# Altium footprint library DPAK171P1524X485-6N.PcbLib: 1 footprints
Each footprint in its own frame and in the unit in brackets; x right, y up, seen from the top. Pads: shape width x height; smd on the part's side, far side on the other; paste and mask are expansions set on the pad; w line width, h text height; cw(c..) or ccw(c..) is an arc to the next point about the centre after c.
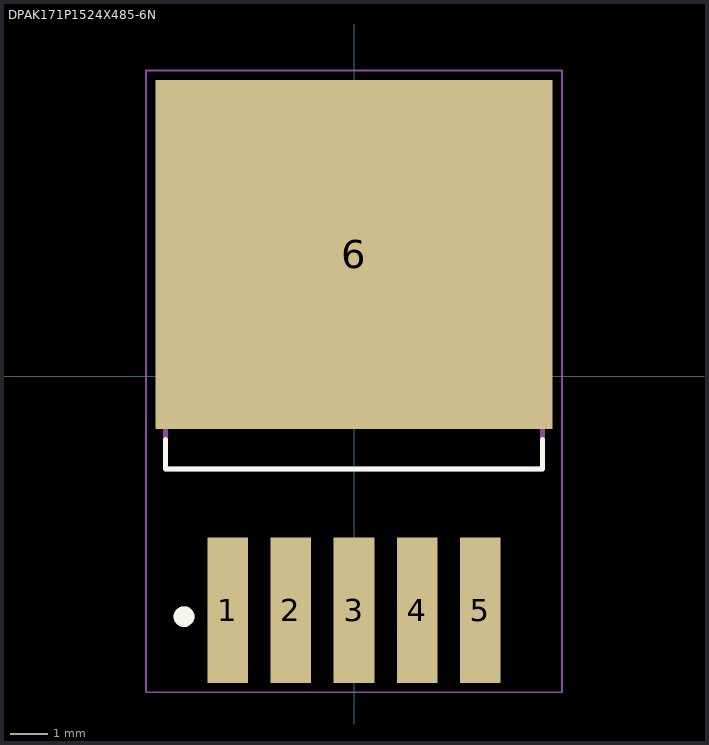
[diagram p0: the footprint, top view; thin cyan lines are the x and y axes]

## DPAK171P1524X485-6N [mm]
pads (6):
  rect 1.1x3.93 smd: 1(-3.42,-6.33) 2(-1.71,-6.33) 3(0,-6.33) 4(1.71,-6.33) 5(3.42,-6.33)
  rect 10.75x9.45 smd: 6(0,3.3)
Top Overlay:
  circle w0.28: c-4.6,-6.5 r0.14
  lines w0.127: -5.1,-1.7 -5.1,-2.505 5.1,-2.505 5.1,-1.7
Top Paste:
  region: 4.12,6.725 4.12,7.805 5.05,7.805 5.05,6.725
  region: 2.29,6.685 2.29,7.863 3.202,7.863 3.202,6.685
  region: 0.427,6.612 0.427,7.899 1.376,7.899 1.376,6.612
  region: -1.399,6.576 -1.399,7.969 -0.484,7.969 -0.484,6.576
  region: -3.235,6.53 -3.235,8.047 -2.352,8.047 -2.352,6.53
  region: -5.088,6.467 -5.088,8.056 -4.151,8.056 -4.151,6.467
  region: 3.951,0.886 3.951,1.976 5.209,1.976 5.209,0.886
  region: 2.123,0.848 2.123,2.02 3.375,2.02 3.375,0.848
  region: 0.277,0.792 0.277,2.077 1.528,2.077 1.528,0.792
  region: -1.565,0.74 -1.565,2.119 -0.304,2.119 -0.304,0.74
  region: -3.424,0.671 -3.424,2.202 -2.177,2.202 -2.177,0.671
  region: -5.272,0.613 -5.272,2.258 -4.023,2.258 -4.023,0.613
  region: 3.905,-1.05 3.905,0.023 5.272,0.023 5.272,-1.05
  region: 2.058,-1.107 2.058,0.089 3.416,0.089 3.416,-1.107
  region: 0.218,-1.157 0.218,0.129 1.586,0.129 1.586,-1.157
  region: -5.313,-1.318 -5.313,0.29 -3.945,0.29 -3.945,-1.318
  region: -3.462,-1.257 -3.462,0.233 -2.098,0.233 -2.098,-1.257
  region: -1.627,-1.212 -1.627,0.183 -0.258,0.183 -0.258,-1.212
  region: 4.086,4.801 4.086,5.862 5.103,5.862 5.103,4.801
  region: 2.223,4.728 2.223,5.911 3.264,5.911 3.264,4.728
  region: 0.384,4.679 0.384,5.965 1.42,5.965 1.42,4.679
  region: -1.464,4.621 -1.464,6.005 -0.41,6.005 -0.41,4.621
  region: -3.299,4.576 -3.299,6.077 -2.272,6.077 -2.272,4.576
  region: -5.142,4.523 -5.142,6.113 -4.098,6.113 -4.098,4.523
  region: 3.997,2.822 3.997,3.919 5.156,3.919 5.156,2.822
  region: 2.176,2.791 2.176,3.969 3.316,3.969 3.316,2.791
  region: 0.339,2.744 0.339,4.028 1.467,4.028 1.467,2.744
  region: -5.199,2.576 -5.199,4.183 -4.058,4.183 -4.058,2.576
  region: -3.356,2.629 -3.356,4.135 -2.22,4.135 -2.22,2.629
  region: -1.515,2.68 -1.515,4.062 -0.357,4.062 -0.357,2.68
Mechanical 1:
  circle w0.28: c-4.6,-6.5 r0.14
  lines w0.05: -5.625,-8.545 5.625,-8.545 5.625,8.275 -5.625,8.275 -5.625,-8.545
  lines w0.127: -5.1,-2.505 5.1,-2.505 5.1,6.645 -5.1,6.645 -5.1,-2.505